# Altium footprint library vitech_capacitors.PcbLib: 28 footprints (part 1 of 2)
Each footprint in its own frame and in the unit in brackets; x right, y up, seen from the top. Pads: shape width x height; smd on the part's side, far side on the other; paste and mask are expansions set on the pad; w line width, h text height; cw(c..) or ccw(c..) is an arc to the next point about the centre after c.
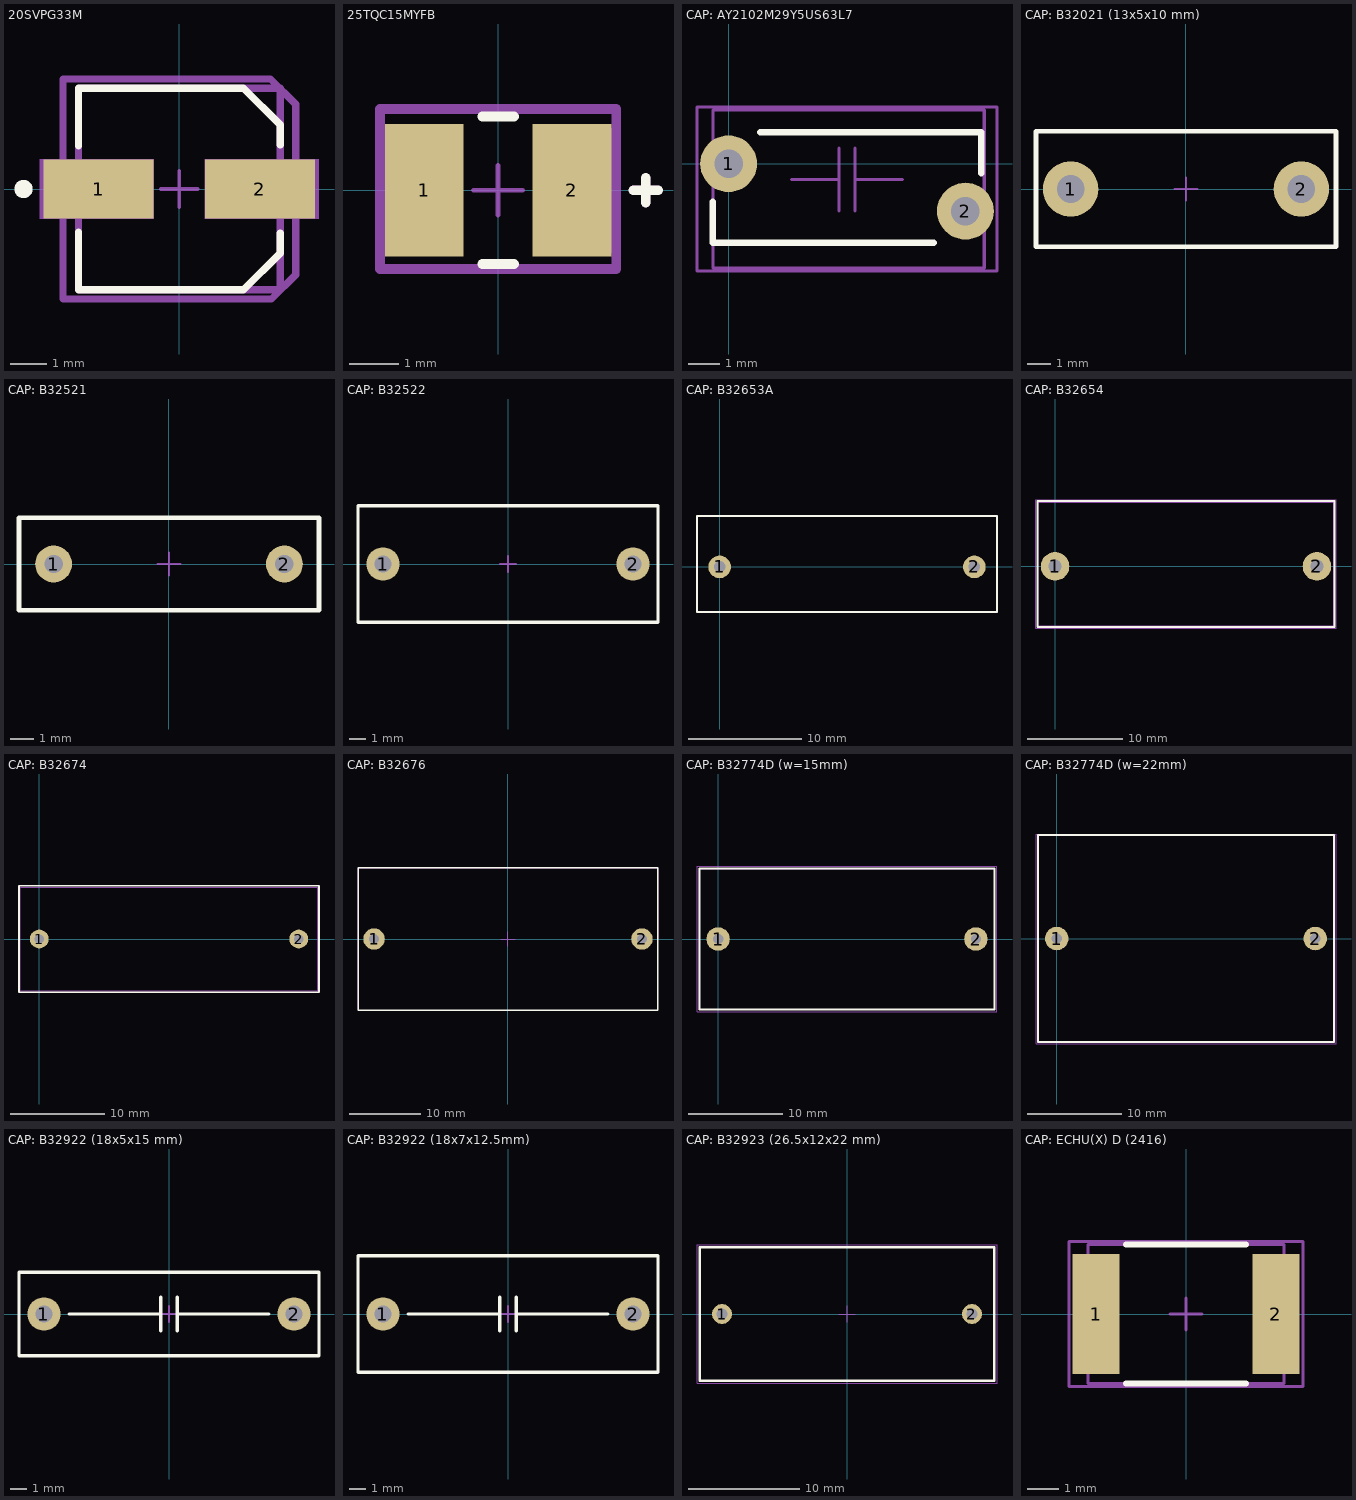
[diagram p0: the footprints below, top view; thin cyan lines are the x and y axes]

## 20SVPG33M [mm]
pads (2):
  rect 3x1.6 smd paste+0 mask+0: 1(-2.2,0) 2(2.2,0)
Top Overlay:
  circle w0.25: c-4.25,0 r0.125
  lines w0.2: -2.75,-1.175 -2.75,-2.75 1.75,-2.75 2.75,-1.75 2.75,-1.2 ; -2.75,1.175 -2.75,2.75 1.75,2.75 2.75,1.75 2.75,1.2
Top 3D Body:
  lines w0.2: -2.75,-2.75 -2.75,2.75 2.75,2.75 2.75,-2.75 -2.75,-2.75
Assembly:
  rectangle: 0.686,-0.813 3.81,0.813
  rectangle: -3.81,-0.813 -0.686,0.813
  lines w0.2: -3.175,-3 -3.175,-0.725 -3.175,2.275 -3.175,3 2.486,3 3.175,2.311 3.175,-2.337 2.512,-3 -3.175,-3
Top Assembly:
  text ".Designator" at -1.779,4.027 h0.5
Top Component Center (Mech16):
  lines w0.1: -0.5,0 0.5,0 ; 0,-0.5 0,0.5
Mechanical 19:
  text ".Comment" at -1.773,3.341 h0.5
3D body "Cap_Panasonic_20SVPG33M_eec.STEP": height 0.25, standoff 0, extent -3.95,-3 3.95,3

## 25TQC15MYFB [mm]
pads (2):
  rect 1.6x2.7 smd paste+0 mask+0: 1(-1.5,0) 2(1.5,0)
Top Overlay:
  lines w0.2: -0.325,-1.5 0.325,-1.5 ; -0.325,1.5 0.325,1.5 ; 2.75,0 3.25,0 ; 3,-0.25 3,0.25
Assembly:
  rectangle: -2.4,-1.291 -0.762,1.27
  rectangle: 0.762,-1.291 2.4,1.27
  lines w0.2: 2.75,0 3.25,0 ; 3,-0.25 3,0.25 ; -2.4,-1.6 2.4,-1.6 2.4,1.651 -2.4,1.651 -2.4,-1.6
Top Assembly:
  text ".Designator" at -1.474,2.249 h0.5
Top Component Center (Mech16):
  lines w0.1: -0.5,0 0.5,0 ; 0,-0.5 0,0.5
Mechanical 19:
  text ".Comment" at -1.443,3.087 h0.5
3D body "Cap_Panasonic_2R5TPE220MFGB_eec.STEP": height 0.25, standoff 0, extent -2.4,-1.6 2.4,1.6

## CAP: AY2102M29Y5US63L7 [mm]
pads (2):
  round 1.8 hole 0.9: 1(0,0) 2(7.5,-1.5)
Top Overlay:
  lines w0.2: -0.497,-1.2 -0.497,-2.5 6.5,-2.5 ; 1,1 7.997,1 7.997,-0.3
Mechanical 1:
  lines w0.1: 2,-0.5 3.5,-0.5 ; 3.5,-1.5 3.5,0.5 ; 4,-1.5 4,0.5 ; 4,-0.5 5.5,-0.5 ; -0.497,-3.3 -0.497,1.7 8.097,1.7 8.097,-3.3 -0.497,-3.3
Mechanical 15:
  lines w0.1: -1,-3.4 -1,1.8 8.5,1.8 8.5,-3.4 -1,-3.4
3D body "6666.STEP": height 10.75, standoff -1.75, extent -0.5,-3.3 8.1,1.7

## CAP: B32021 (13x5x10 mm) [mm]
pads (2):
  round 2.4 hole 1.2: 1(-5,0) 2(5,0)
Top Overlay:
  lines w0.2: -6.5,-2.5 6.5,-2.5 6.5,2.5 -6.5,2.5 -6.5,-2.5
Mechanical 1:
  lines w0.1: -6.5,-2.5 6.5,-2.5 6.5,2.5 -6.5,2.5 -6.5,-2.5
Mechanical 15:
  lines w0.1: -0.5,0 0.5,0 ; 0,-0.5 0,0.5 ; -6.5,-2.5 -6.5,2.5 6.5,2.5 6.5,-2.5 -6.5,-2.5
3D body "CAPRR1000W60L1300T500H1100.STEP": height 10.7, standoff -2.75, extent -6.5,-2.5 6.5,2.5

## CAP: B32521 [mm]
pads (2):
  round 1.6 hole 0.8: 1(-5,0) 2(5,0)
Top Overlay:
  lines w0.2: -6.5,-2 6.5,-2 6.5,2 -6.5,2 -6.5,-2
Mechanical 1:
  lines w0.1: -6.5,-2 -6.5,2 6.5,2 6.5,-2 -6.5,-2
Mechanical 15:
  lines w0.1: -0.5,0 0.5,0 ; 0,-0.5 0,0.5 ; -6.5,-2 -6.5,2 6.5,2 6.5,-2 -6.5,-2
3D body "B32521.STEP": height 9, standoff -3, extent -6.5,-2 6.5,2

## CAP: B32522 [mm]
pads (2):
  round 2 hole 1: 1(-7.5,0) 2(7.5,0)
Top Overlay:
  lines w0.2: -9,-3.5 9,-3.5 9,3.5 -9,3.5 -9,0 -9,-3.5
Mechanical 1:
  lines w0.1: -9,-3.5 9,-3.5 9,3.5 -9,3.5 -9,-3.5
Mechanical 15:
  lines w0.1: -0.5,0 0.5,0 ; 0,-0.5 0,0.5 ; -9,-3.5 -9,3.5 9,3.5 9,-3.5 -9,-3.5
3D body "B32522.stp": height 12.51, standoff -4, extent -9,-3.5 9,3.5

## CAP: B32653A [mm]
pads (2):
  round 2 hole 1: 1(0,0) 2(22.5,0)
Top Overlay:
  lines w0.2: -2,-4 24.5,-4 24.5,4.5 -2,4.5 -2,-4
Mechanical 1:
  lines w0.1: -2,-4 24.5,-4 24.5,4.5 -2,4.5 -2,-4
Mechanical 15:
  lines w0.1: -2,-4 24.5,-4 24.5,4.5 -2,4.5 -2,-4
3D body "6.STEP": height 16.5, standoff -2.5, extent -2,-4 24.5,4.5

## CAP: B32654 [mm]
pads (2):
  round 3 hole 1.4: 1(0,0) 2(27.5,0)
Top Overlay:
  lines w0.2: -1.85,-6.35 -1.85,6.85 29.35,6.85 29.35,-6.35 -1.85,-6.35
Mechanical 1:
  lines w0.1: -1.75,-6.25 -1.75,6.75 29.25,6.75 29.25,-6.25 -1.75,-6.25
Mechanical 15:
  lines w0.1: -2,-6.5 29.5,-6.5 29.5,7 -2,7 -2,-6.5
3D body "User Library-Vishay_1uF-400V_MKT_373_STD_27_5pitch.STEP": height 23, standoff -3, extent -1.75,-6.25 29.25,6.75

## CAP: B32674 [mm]
pads (2):
  round 2 hole 1: 1(0,0) 2(27.5,0)
Top Overlay:
  lines w0.2: -2.15,-5.65 -2.15,5.65 29.65,5.65 29.65,-5.65 -2.15,-5.65
Mechanical 1:
  lines w0.1: -2,-5.5 29.5,-5.5 29.5,5.5 -2,5.5 -2,-5.5
Mechanical 15:
  lines w0.1: -2,-5.5 29.5,-5.5 29.5,5.5 -2,5.5 -2,-5.5
3D body "B32674.STEP": height 19, standoff -3, extent -2,-5.5 29.5,5.5

## CAP: B32676 [mm]
pads (2):
  round 3 hole 1.4: 1(-18.75,0) 2(18.75,0)
Top Overlay:
  lines w0.2: -21,-10 -21,10 21,10 21,-10 -21,-10
Mechanical 1:
  lines w0.1: -21,-10 21,-10 21,10 -21,10 -21,-10
Mechanical 15:
  lines w0.1: -1,0 1,0 ; 0,-1 0,1 ; -21,-10 21,-10 21,10 -21,10 -21,-10
3D body "B32676.STEP": height 39.55, standoff -3, extent -21,-10 21,10

## CAP: B32774D (w=15mm) [mm]
pads (2):
  round 2.5 hole 1.1: 1(0,0) 2(27.5,0)
Top Overlay:
  lines w0.2: -2,-7.5 -2,7.5 29.5,7.5 29.5,-7.5 -2,-7.5
Mechanical 1:
  lines w0.1: -2,-7.5 -2,7.5 29.5,7.5 29.5,-7.5 -2,-7.5
Mechanical 15:
  lines w0.1: -2.25,-7.75 -2.25,7.75 29.75,7.75 29.75,-7.75 -2.25,-7.75
3D body "2.STEP": height 24.55, standoff -2.95, extent -2,-7.5 29.5,7.5

## CAP: B32774D (w=22mm) [mm]
pads (2):
  round 2.5 hole 1.1: 1(0,0) 2(27.5,0)
Top Overlay:
  lines w0.2: -2,-11 29.5,-11 29.5,11 -2,11 -2,-11
Mechanical 1:
  lines w0.1: -2,-11 -2,11 29.5,11 29.5,-11 -2,-11
Mechanical 15:
  lines w0.1: -2.2,-11.2 29.7,-11.2 29.7,11.1 -2.2,11.1 -2.2,-11.2
3D body "B32774D (w=22mm).STEP": height 36.5, standoff -3, extent -2,-11 29.5,11

## CAP: B32922 (18x5x15 mm) [mm]
pads (2):
  round 2 hole 1 mask+0.075: 1(-7.5,0) 2(7.5,0)
Top Overlay:
  lines w0.2: -6,0 -0.5,0 ; -0.5,-1 -0.5,1 ; 0.5,-1 0.5,1 ; 0.5,0 6,0 ; -9,-2.5 -9,2.5 9,2.5 9,-2.5 -9,-2.5
Mechanical 1:
  lines w0.1: -6,0 -0.5,0 ; -0.5,-1 -0.5,1 ; 0.5,-1 0.5,1 ; 0.5,0 6,0 ; -9,-2.5 9,-2.5 9,2.5 -9,2.5 -9,-2.5
Mechanical 15:
  lines w0.1: -0.5,0 0.5,0 ; 0,-0.5 0,0.5 ; -9,-2.5 9,-2.5 9,2.5 -9,2.5 -9,-2.5
3D body "B32922C (18õ5õ15).STEP": height 15, standoff -4, extent -9,-2.5 9,2.5

## CAP: B32922 (18x7x12.5mm) [mm]
pads (2):
  round 2 hole 1 mask+0.075: 1(-7.5,0) 2(7.5,0)
Top Overlay:
  lines w0.2: -6,0 -0.5,0 ; -0.5,-1 -0.5,1 ; 0.5,-1 0.5,1 ; 0.5,0 6,0 ; -9,-3.5 9,-3.5 9,3.5 -9,3.5 -9,-3.5
Mechanical 1:
  lines w0.1: -6,0 -0.5,0 ; -0.5,-1 -0.5,1 ; 0.5,-1 0.5,1 ; 0.5,0 6,0 ; -9,-3.5 -9,3.5 9,3.5 9,-3.5 -9,-3.5
Mechanical 15:
  lines w0.1: -0.5,0 0.5,0 ; 0,-0.5 0,0.5 ; -9,-3.5 -9,3.5 9,3.5 9,-3.5 -9,-3.5
3D body "6666.STEP": height 12.5, standoff -4, extent -9,-3.5 9,3.5

## CAP: B32923 (26.5x12x22 mm) [mm]
pads (2):
  round 1.8 hole 1: 1(-11.25,0) 2(11.25,0)
Top Overlay:
  lines w0.2: -13.25,-6 -13.25,6 13.25,6 13.25,-6 -13.25,-6
Mechanical 1:
  lines w0.1: -13.25,-6 13.25,-6 13.25,6 -13.25,6 -13.25,-6
Mechanical 15:
  lines w0.1: -0.75,0 0.75,0 ; 0,-0.75 0,0.75 ; -13.5,-6.25 -13.5,6.25 13.5,6.25 13.5,-6.25 -13.5,-6.25
3D body "B32923.STEP": height 22, standoff -3, extent -13.25,-6 13.25,6

## CAP: ECHU(X) D (2416) [mm]
height 2.8
pads (2):
  rect 1.5x3.8 smd: 1(-2.85,0) 2(2.85,0)
Top Overlay:
  lines w0.2: -1.9,-2.2 1.9,-2.2 ; -1.9,2.2 1.9,2.2
Mechanical 1:
  lines w0.1: -3.1,-2.2 -3.1,2.2 3.1,2.2 3.1,-2.2 -3.1,-2.2
Mechanical 15:
  lines w0.1: -0.5,0 0.5,0 ; 0,-0.5 0,0.5 ; -3.7,-2.3 -3.7,2.3 3.7,2.3 3.7,-2.3 -3.7,-2.3
3D body: height 2.8, standoff 0, extent -2.3,-2.2 2.3,2.2
3D body: height 2.8, standoff 0, extent -3.1,-2.2 -2.3,2.2
3D body: height 2.8, standoff 0, extent 2.3,-2.2 3.1,2.2